# EAGLE library part ORIENT_LENSMOUNT (library harrison)
Orient chip
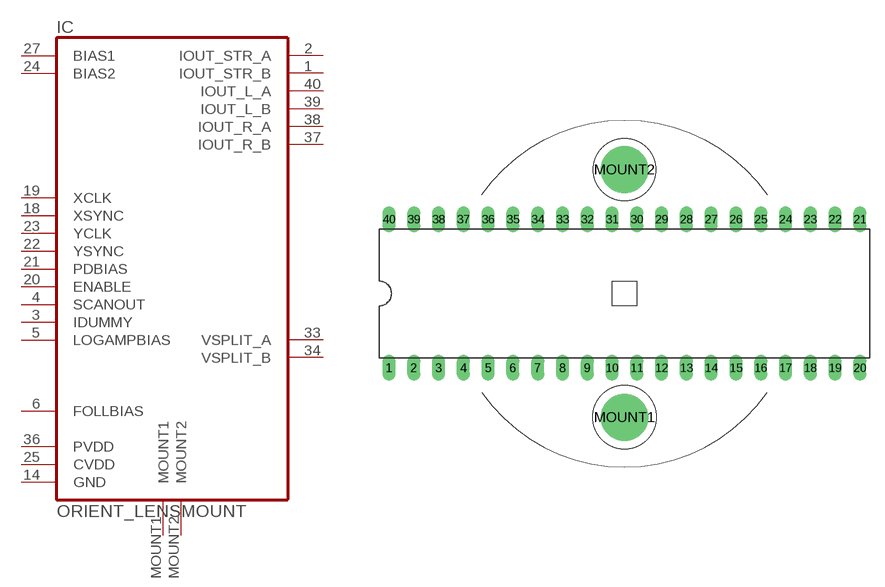
[diagram p5: symbol with the pads of DIL40_LENSMOUNT; footprint DIL40_LENSMOUNT]

Designator prefix IC

## ORIENT_LENSMOUNT  [DIL40_LENSMOUNT]
1  IOUT_STR_B  pas
2  IOUT_STR_A  pas
3  IDUMMY  pas
4  SCANOUT  out
5  LOGAMPBIAS  pas
6  FOLLBIAS  in
14  GND  pwr
18  XSYNC  out
19  XCLK  in
20  ENABLE  in
21  PDBIAS  in
22  YSYNC  out
23  YCLK  in
24  BIAS2  pas
25  CVDD  pwr
27  BIAS1  pas
33  VSPLIT_A  in
34  VSPLIT_B  in
36  PVDD  pwr
37  IOUT_R_B  pas
38  IOUT_R_A  pas
39  IOUT_L_B  pas
40  IOUT_L_A  pas
MOUNT1  MOUNT1  pas
MOUNT2  MOUNT2  pas

## Footprint DIL40_LENSMOUNT (pad centres in mm)
drill 0.813 long: 1 -24.13,-7.62; 2 -21.59,-7.62; 3 -19.05,-7.62; 4 -16.51,-7.62; 5 -13.97,-7.62; 6 -11.43,-7.62; 7 -8.89,-7.62; 8 -6.35,-7.62; 9 -3.81,-7.62; 10 -1.27,-7.62; 11 1.27,-7.62; 12 3.81,-7.62; 13 6.35,-7.62; 14 8.89,-7.62; 15 11.43,-7.62; 16 13.97,-7.62; 17 16.51,-7.62; 18 19.05,-7.62; 19 21.59,-7.62; 20 24.13,-7.62; 21 24.13,7.62; 22 21.59,7.62; 23 19.05,7.62; 24 16.51,7.62; 25 13.97,7.62; 26 11.43,7.62; 27 8.89,7.62; 28 6.35,7.62; 29 3.81,7.62; 30 1.27,7.62; 31 -1.27,7.62; 32 -3.81,7.62; 33 -6.35,7.62; 34 -8.89,7.62; 35 -11.43,7.62; 36 -13.97,7.62; 37 -16.51,7.62; 38 -19.05,7.62; 39 -21.59,7.62; 40 -24.13,7.62
drill 3.81: MOUNT1 0,-12.7; MOUNT2 0,12.7